# Altium schematic symbol library KF33BD.SCHLIB: 1 symbol
Pins are listed as number, name and electrical type; pins without a type are passive.

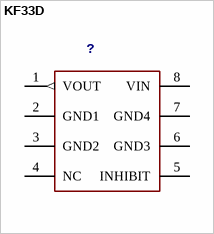
[diagram p0: symbol KF33D]

## KF33D
designator ?
footprint SO8
pins: 1 VOUT (out), 2 GND1 (power), 3 GND2 (power), 4 NC, 5 INHIBIT, 6 GND3 (power), 7 GND4 (power), 8 VIN